# Altium footprint library Con Audio Video.PcbLib: 3 footprints
Each footprint in its own frame and in the unit in brackets; x right, y up, seen from the top. Pads: shape width x height; smd on the part's side, far side on the other; paste and mask are expansions set on the pad; w line width, h text height; cw(c..) or ccw(c..) is an arc to the next point about the centre after c.
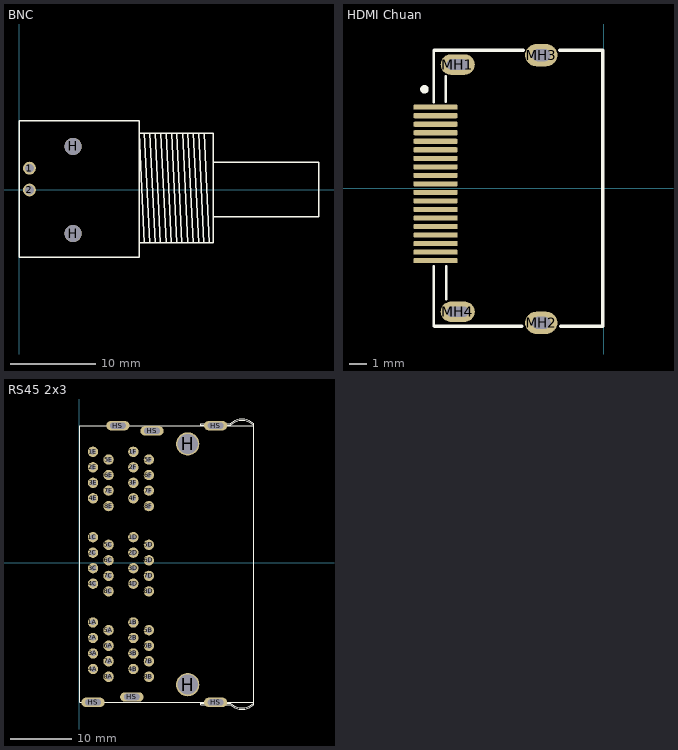
[diagram p0: the footprints below, top view; thin cyan lines are the x and y axes]

## BNC [mm] "Amphenol"
height 3.3
pads (4):
  round 1.5 hole 1: 1(1.219,2.489) 2(1.219,-0.051)
  round 2 hole 2: H(6.299,-5.131) H(6.299,5.029)
Top Overlay:
  lines w0.15: 14.605,-6.172 13.995,6.528 ; 14.605,6.528 15.215,-6.172 ; 15.24,6.528 15.85,-6.172 ; 15.85,6.528 16.459,-6.172 ; 16.51,6.477 17.117,-6.174 ; 17.12,6.477 17.727,-6.175 ; 17.755,6.477 18.362,-6.175 ; 18.364,6.477 18.971,-6.17 ; 19.05,6.528 19.66,-6.172 ; 19.66,6.528 20.269,-6.172 ; 20.295,6.528 20.904,-6.172 ; 20.904,6.528 21.514,-6.172 ; 21.565,6.477 22.172,-6.175 ; 22.581,3.175 34.925,3.175 34.925,-3.175 22.595,-3.175 ; 22.581,6.528 13.995,6.528 ; 13.995,6.528 13.995,-6.172 22.595,-6.172 22.595,6.528 13.995,6.528 ; 0,-7.874 13.97,-7.874 13.97,8.001 0,8.001 0,-7.874
3D body "31-5431-10RFX.stp": height 17.38, standoff -3.99, extent 0.178,-7.838 34.976,8.042

## HDMI Chuan [mm] "FCI CON"
height 3.3
pads (23):
  rrect50% 2.6x0.3 smd: 5+(-9.856,-3.745) CEC(-9.856,-1.245) HEAC(-9.856,-1.745) HEAC_GND(-9.856,-3.245) HOT_PLUG(-9.856,-4.245) SCL(-9.856,-2.245) SDA(-9.856,-2.745) TMDS_CLOCK+(-9.856,0.255) TMDS_CLOCK-(-9.856,-0.745) TMDS_CLOCK_SHIELD(-9.856,-0.245) TMDS_DATA0+(-9.856,1.755) TMDS_DATA0-(-9.856,0.755) TMDS_DATA0_SHIELD(-9.856,1.255) TMDS_DATA1+(-9.856,3.255) TMDS_DATA1-(-9.856,2.255) TMDS_DATA1_SHEILD(-9.856,2.755) TMDS_DATA2+(-9.856,4.755) TMDS_DATA2-(-9.856,3.755) TMDS_DATA2_SHIELD(-9.856,4.255)
  oval 2x1.2 hole 0.6 slot 1.3 at 0 deg: MH1(-8.556,7.255) MH4(-8.556,-7.245)
  oval 1.9x1.3 hole 0.7 slot 1.1 at 0 deg: MH2(-3.656,-7.895) MH3(-3.656,7.805)
Top Overlay:
  circle w0.25: c-10.506,5.805 r0.125
  lines w0.15: -9.956,-8.095 -9.956,-4.57 ; -9.956,5.055 -9.956,8.105 ; -9.246,5.08 -9.246,6.553 ; -9.22,-6.502 -9.22,-4.572
  lines w0.2: -9.931,8.105 -4.706,8.105 ; -9.906,-8.095 -4.806,-8.095 ; -2.581,8.105 -0.056,8.105 -0.056,-8.095 -2.506,-8.095
3D body "User Library-10029449-001LF.STEP": height 6.12, standoff -1.88, extent -9.906,-8.095 -0.006,8.105

## RS45 2x3 [mm]
pads (56):
  round 1.7 hole 0.9: 1A(2.275,-9.779) 1B(8.879,-9.779) 1C(2.275,4.191) 1D(8.879,4.191) 1E(2.275,18.161) 1F(8.879,18.161) 2A(2.275,-12.319) 2B(8.879,-12.319) 2C(2.275,1.651) 2D(8.879,1.651) 2E(2.275,15.621) 2F(8.879,15.621) 3A(2.286,-14.859) 3B(8.89,-14.859) 3C(2.286,-0.889) 3D(8.89,-0.889) 3E(2.286,13.081) 3F(8.89,13.081) 4A(2.286,-17.399) 4B(8.89,-17.399) 4C(2.286,-3.429) 4D(8.89,-3.429) 4E(2.286,10.541) 4F(8.89,10.541) 5A(4.826,-11.049) 5B(11.43,-11.049) 5C(4.826,2.921) 5D(11.43,2.921) 5E(4.826,16.891) 5F(11.43,16.891) 6A(4.826,-13.589) 6B(11.43,-13.589) 6C(4.826,0.381) 6D(11.43,0.381) 6E(4.826,14.351) 6F(11.43,14.351) 7A(4.826,-16.129) 7B(11.43,-16.129) 7C(4.826,-2.159) 7D(11.43,-2.159) 7E(4.826,11.811) 7F(11.43,11.811) 8A(4.826,-18.669) 8B(11.43,-18.669) 8C(4.826,-4.699) 8D(11.43,-4.699) 8E(4.826,9.271) 8F(11.43,9.271)
  round 3.81 hole 3.302: H(17.775,-19.96) H(17.775,19.44)
  oval 3.81x1.524 hole 1.016 slot 2.54 at 0 deg: HS(2.286,-22.86) HS(6.35,22.44) HS(8.636,-21.971) HS(11.938,21.59) HS(22.352,-22.86) HS(22.352,22.44)
Top Overlay:
  lines w0.127: 0.075,-22.86 0.075,22.44 28.575,22.44 28.575,-22.86 0.075,-22.86 ; 19.939,-23.241 19.939,-22.987 24.765,-22.987 ccw(c26.67,-21.082) 28.575,-22.987 28.575,-23.241 cw(c26.67,-21.336) 24.765,-23.241 19.939,-23.241 ; 19.939,22.479 24.765,22.479 cw(c26.67,20.574) 28.575,22.479 28.575,22.733 ccw(c26.67,20.828) 24.765,22.733 19.939,22.733 19.939,22.479
3D body "c-5569261-1-a1-3d.stp": height 25.92, standoff -4.43, extent 0.127,-23.749 28.575,23.495